# Altium schematic symbol library C2Sv0 - Processor.SchLib: 31 symbols
Pins are listed as number, name and electrical type; pins without a type are passive.

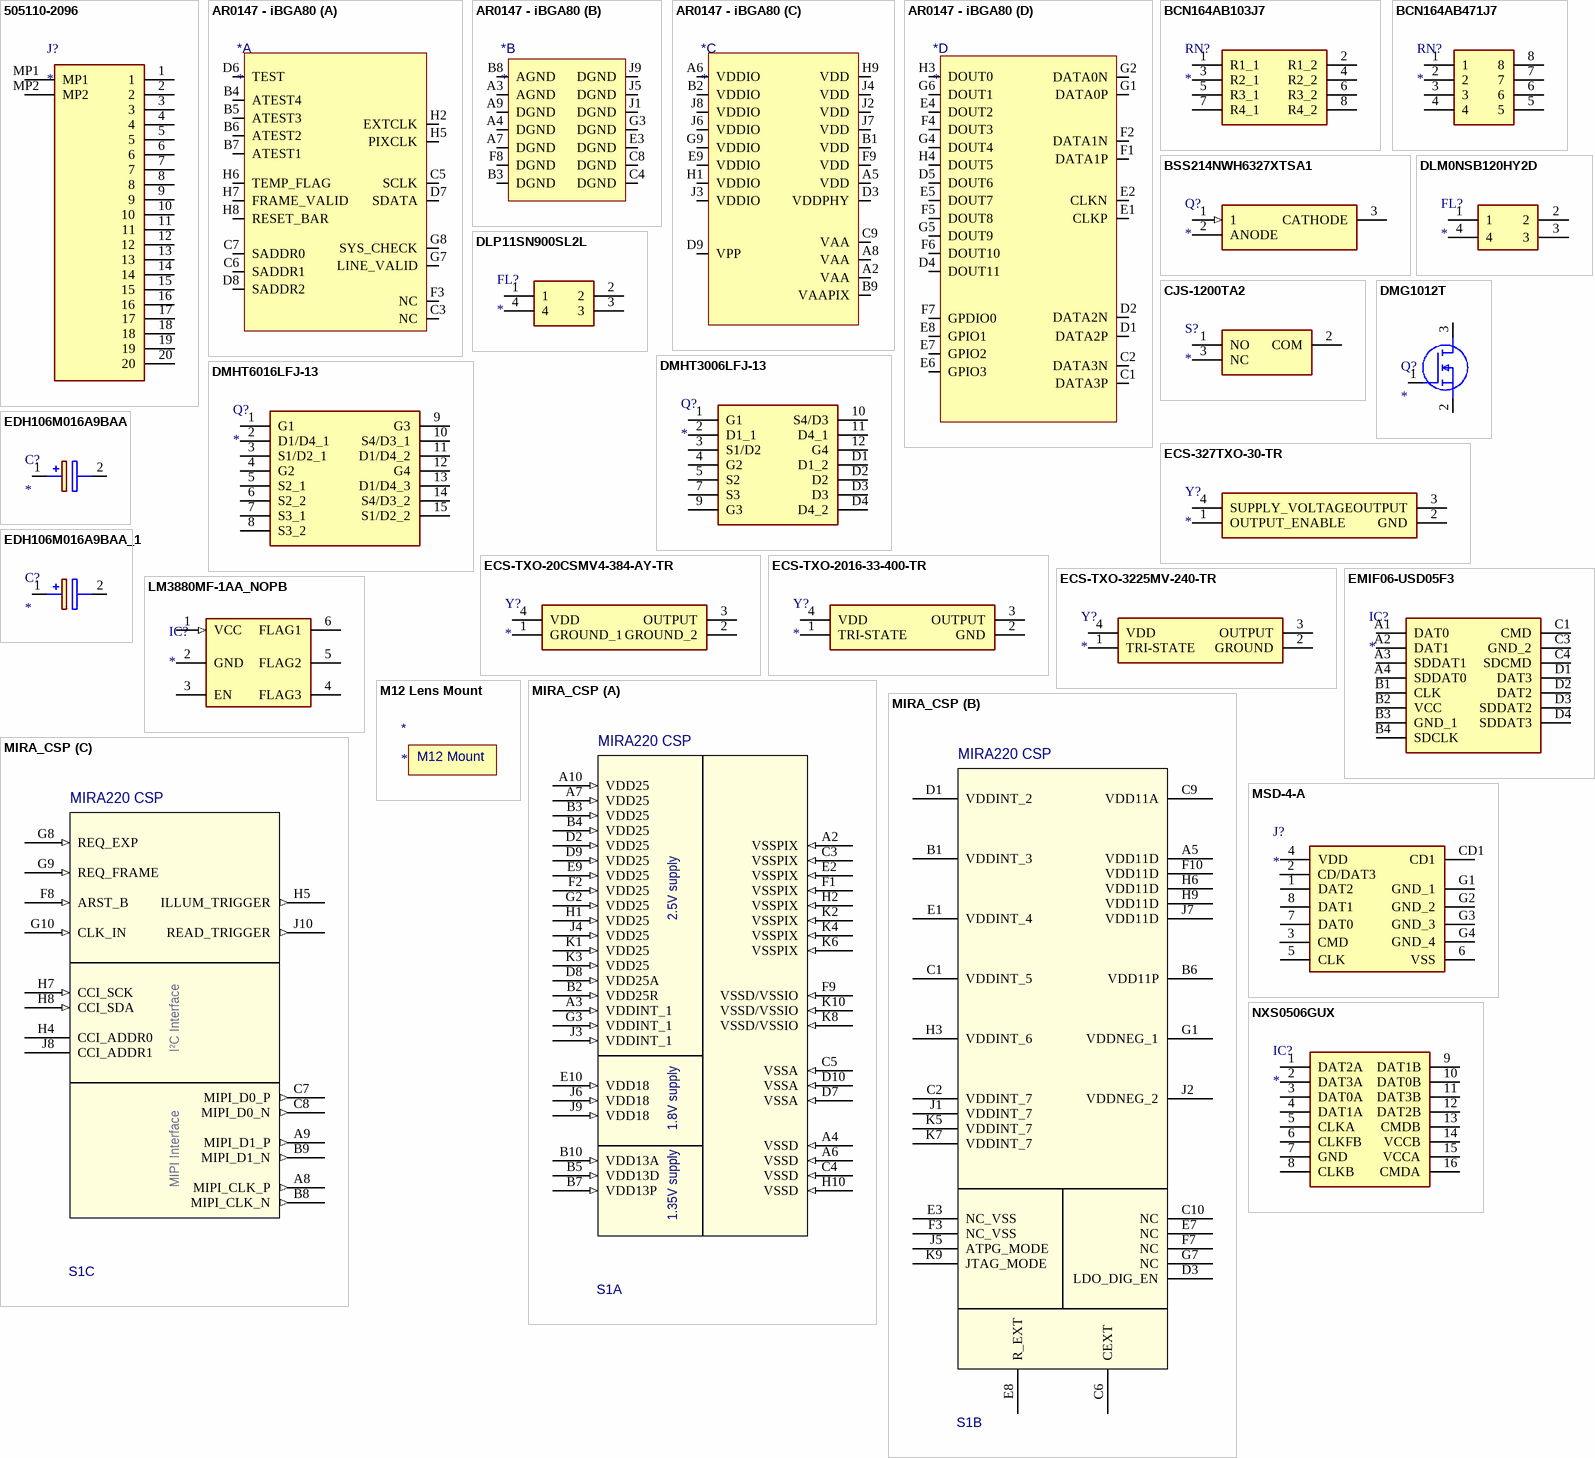
[diagram p0: symbols 505110-2096 to NXS0506GUX]

## 505110-2096
designator J?
Connector; Manufacturer_Name: Molex; Manufacturer_Part_Number: 505110-2096; Datasheet Link: https://componentsearchengine.com/Datasheets/1/505110-2096.pdf; Height: 2.1mm; Mouser Part Number: 538-505110-2096; Mouser Price/Stock: https://www.mouser.co.uk/ProductDetail/Molex/505110-2096?qs=IvjI65BR3TVK2gHWyfgM0A%3D%3D
footprint 5051102096
footprint 5051102096
pins: 1, 2, 3, 4, 5, 6, 7, 8, 9, 10, 11, 12, 13, 14, 15, 16, 17, 18, 19, 20, MP1, MP2

## AR0147 - iBGA80
designator *
footprint AR0147 - IBGA80
footprint AR0147 - IBGA80
part A pins: B4 ATEST4, B5 ATEST3, B6 ATEST2, B7 ATEST1, C3 NC, C5 SCLK (in), C6 SADDR1 (in), C7 SADDR0 (in), D6 TEST, D7 SDATA (in), D8 SADDR2 (in), F3 NC, G7 LINE_VALID (out), G8 SYS_CHECK (out), H2 EXTCLK (in), H5 PIXCLK (out), H6 TEMP_FLAG (out), H7 FRAME_VALID (out), H8 RESET_BAR (in)
part B pins: A3 AGND (power), A4 DGND (power), A7 DGND (power), A9 DGND (power), B3 DGND (power), B8 AGND (power), C4 DGND (power), C8 DGND (power), E3 DGND (power), F8 DGND (power), G3 DGND (power), J1 DGND (power), J5 DGND (power), J9 DGND (power)
part C pins: A2 VAA (power), A5 VDD (power), A6 VDDIO (power), A8 VAA (power), B1 VDD (power), B2 VDDIO (power), B9 VAAPIX (power), C9 VAA (power), D3 VDDPHY (power), D9 VPP (power), E9 VDDIO (power), F9 VDD (power), G9 VDDIO (power), H1 VDDIO (power), H9 VDD (power), J2 VDD (power), J3 VDDIO (power), J4 VDD (power), J6 VDDIO (power), J7 VDD (power), J8 VDDIO (power)
part D pins: C1 DATA3P (out), C2 DATA3N (out), D1 DATA2P (out), D2 DATA2N (out), D4 DOUT11 (out), D5 DOUT6 (out), E1 CLKP (out), E2 CLKN (out), E4 DOUT2 (out), E5 DOUT7 (out), E6 GPIO3 (io), E7 GPIO2 (io), E8 GPIO1 (io), F1 DATA1P (out), F2 DATA1N (out), F4 DOUT3 (out), F5 DOUT8 (out), F6 DOUT10 (out), F7 GPDIO0 (io), G1 DATA0P (out), G2 DATA0N (out), G4 DOUT4 (out), G5 DOUT9 (out), G6 DOUT1 (out), H3 DOUT0 (out), H4 DOUT5 (out)

## BCN164AB103J7
designator RN?
Resistor Network; Manufacturer_Name: IRC / TT Electronics; Manufacturer_Part_Number: BCN164AB103J7; Datasheet Link: https://componentsearchengine.com/Datasheets/1/BCN164AB103J7.pdf; Height: 0.6mm; Mouser Part Number: 858-BCN164AB103J7; Mouser Price/Stock: https://www.mouser.co.uk/ProductDetail/IRC-TT-Electronics/BCN164AB103J7?qs=sKpblPcrDFAYmBHclHBIlw%3D%3D; Arrow Part Number: BCN164AB103J7; Arrow Price/Stock: https://www.arrow.com/en/products/bcn164ab103j7/irc
footprint BCN164AB103J7
pins: 1 R1_1, 2 R1_2, 3 R2_1, 4 R2_2, 5 R3_1, 6 R3_2, 7 R4_1, 8 R4_2

## BCN164AB471J7
designator RN?
Resistor Network; Manufacturer_Name: TT Electronics; Manufacturer_Part_Number: BCN164AB471J7; Datasheet Link: https://www.mouser.com/datasheet/2/414/BCN-1154942.pdf; Height: 0.6mm; Mouser Part Number: 858-BCN164AB471J7
footprint BCN164AB471J7
pins: 1, 2, 3, 4, 5, 6, 7, 8

## BSS214NWH6327XTSA1
designator Q?
Transistor; Manufacturer_Name: Infineon; Manufacturer_Part_Number: BSS214NWH6327XTSA1; Datasheet Link: http://www.mouser.com/ds/2/196/BSS214NW_Rev2.2-359325.pdf; Height: 1mm; Mouser Part Number: 726-BSS214NWH6327XTS; Mouser Price/Stock: https://www.mouser.co.uk/ProductDetail/Infineon-Technologies/BSS214NWH6327XTSA1?qs=Dj8dEyEphkMe%252Bfnz0ZE2og%3D%3D; Arrow Part Number: BSS214NWH6327XTSA1; Arrow Price/Stock: https://www.arrow.com/en/products/bss214nwh6327xtsa1/infineon-technologies-ag?utm_currency=USD&region=nac
footprint BSS214NWH6327XTSA1
pins: 1 (in), 2 ANODE, 3 CATHODE

## CJS-1200TA2
designator S?
Switch; Manufacturer_Name: Nidec Copal; Manufacturer_Part_Number: CJS-1200TA2; Datasheet Link: http://www.nidec-copal-electronics.com/j/catalog/switch/cjs.pdf; Height: 2.5mm; Mouser Part Number: 229-CJS-1200TA2; Mouser Price/Stock: https://www.mouser.co.uk/ProductDetail/Nidec-Components/CJS-1200TA2?qs=XeJtXLiO41Rf26ws0igWdA%3D%3D
footprint CJS1200TA2
footprint CJS1200TA2
pins: 1 NO, 2 COM, 3 NC

## DLM0NSB120HY2D
designator FL?
Filter; Manufacturer_Name: Murata Electronics; Manufacturer_Part_Number: DLM0NSB120HY2D; Datasheet Link: https://www.murata.com/en-us/products/productdetail?partno=DLM0NSB120HY2%23; Height: 0.5mm; Mouser Part Number: 81-DLM0NSB120HY2D; Mouser Price/Stock: https://www.mouser.co.uk/ProductDetail/Murata-Electronics/DLM0NSB120HY2D?qs=d0WKAl%252BL4Kark8uQYdrkog%3D%3D
footprint DLM0NSB120HY2D
pins: 1, 2, 3, 4

## DLP11SN900SL2L
designator FL?
Filter; Manufacturer_Name: Murata Electronics; Manufacturer_Part_Number: DLP11SN900SL2L; Datasheet Link: https://eu.mouser.com/datasheet/2/281/EFLE0004-1666083.pdf; Height: 0.92mm; Mouser Part Number: 81-DLP11SN900SL2L; Mouser Price/Stock: https://www.mouser.co.uk/ProductDetail/Murata-Electronics/DLP11SN900SL2L?qs=mS8Fuotq4gEpeqbpu4ZywQ%3D%3D
footprint DLP11SN900SL2L
footprint DLP11SN900SL2L
pins: 1, 2, 3, 4

## DMG1012T
designator Q?
MOSFET (N-Channel); Manufacturer_Name: Diodes Incorporated; Manufacturer_Part_Number: DMG1012T; Datasheet Link: https://www.diodes.com/datasheet/download/DMG1012T.pdf; Height: 0.9mm; Mouser Part Number: N/A; Mouser Price/Stock: https://www.mouser.co.uk/ProductDetail/Diodes-Incorporated/DMG1012T?qs=Wj%2FVkw3K%252BMD5naxckZUW%2FA%3D%3D
footprint SOT50P160X90-3N
footprint SOT50P160X90-3N
pins: 1 G, 2 S, 3 D

## DMHT3006LFJ-13
designator Q?
MOSFET (N-Channel); Manufacturer_Name: Diodes Incorporated; Manufacturer_Part_Number: DMHT3006LFJ-13; Datasheet Link: https://www.mouser.com/datasheet/2/115/DMHT3006LFJ-1509024.pdf; Height: 0.82mm; Mouser Part Number: 621-DMHT3006LFJ-13; Mouser Price/Stock: https://www.mouser.co.uk/ProductDetail/Diodes-Incorporated/DMHT3006LFJ-13?qs=PqoDHHvF64%2FIw5fnwz%252BNTw%3D%3D; Arrow Part Number: DMHT3006LFJ-13; Arrow Price/Stock: https://www.arrow.com/en/products/dmht3006lfj-13/diodes-incorporated?utm_currency=USD&region=nac
footprint DMHT3006LFJ13
pins: 1 G1, 2 D1_1, 3 S1/D2, 4 G2, 5 S2, 7 S3, 9 G3, 10 S4/D3, 11 D4_1, 12 G4, D1 D1_2, D2, D3, D4 D4_2

## DMHT6016LFJ-13
designator Q?
MOSFET (N-Channel); Manufacturer_Name: Diodes Incorporated; Manufacturer_Part_Number: DMHT6016LFJ-13; Datasheet Link: https://www.diodes.com//assets/Datasheets/DMHT6016LFJ.pdf; Height: 0.85mm; Mouser Part Number: 621-DMHT6016LFJ-13; Mouser Price/Stock: https://www.mouser.co.uk/ProductDetail/Diodes-Incorporated/DMHT6016LFJ-13?qs=AQlKX63v8RuRA1AfUZIZiQ%3D%3D; Arrow Part Number: DMHT6016LFJ-13; Arrow Price/Stock: https://www.arrow.com/en/products/dmht6016lfj-13/diodes-incorporated?utm_currency=USD&region=nac
footprint DMHT6016LFJ13
pins: 1 G1, 2 D1/D4_1, 3 S1/D2_1, 4 G2, 5 S2_1, 6 S2_2, 7 S3_1, 8 S3_2, 9 G3, 10 S4/D3_1, 11 D1/D4_2, 12 G4, 13 D1/D4_3, 14 S4/D3_2, 15 S1/D2_2

## ECS-327TXO-30-TR
designator Y?
Crystal or Oscillator; Manufacturer_Name: ECS; Manufacturer_Part_Number: ECS-327TXO-30-TR; Datasheet Link: https://www.mouser.in/datasheet/2/122/ECS-327TXO-1856022.pdf; Height: 1.4mm; Mouser Part Number: 520-ECS-327TXO-30-TR; Mouser Price/Stock: https://www.mouser.co.uk/ProductDetail/ECS/ECS-327TXO-30-TR?qs=7MVldsJ5Uaw0lR9mGIycLQ%3D%3D; Arrow Part Number: ECS-327TXO-30-TR; Arrow Price/Stock: https://www.arrow.com/en/products/ecs-327txo-30-tr/ecs-international?region=nac
footprint ECS327TXO30TR
pins: 1 OUTPUT_ENABLE, 2 GND, 3 OUTPUT, 4 SUPPLY_VOLTAGE

## ECS-TXO-20CSMV4-384-AY-TR
designator Y?
Crystal or Oscillator; Manufacturer_Name: ECS; Manufacturer_Part_Number: ECS-TXO-20CSMV4-384-AY-TR; Datasheet Link: https://ecsxtal.com/store/pdf/ECS-TXO-20CSMV4.pdf; Height: 0.8mm
footprint ECS-TXO-20CSMV4-384-AY-TR
pins: 1 GROUND_1, 2 GROUND_2, 3 OUTPUT, 4 VDD

## ECS-TXO-2016-33-400-TR
designator Y?
Crystal or Oscillator; Manufacturer_Name: ECS; Manufacturer_Part_Number: ECS-TXO-2016-33-400-TR; Datasheet Link: https://datasheet.datasheetarchive.com/originals/distributors/Datasheets_SAMA/fdc451124f6f80954f29114af1256858.pdf; Height: 0.8mm; Mouser Part Number: 520-TXO-2016-33-400T; Mouser Price/Stock: https://www.mouser.co.uk/ProductDetail/ECS/ECS-TXO-2016-33-400-TR?qs=PzGy0jfpSMtctR53CPxRHg%3D%3D; Arrow Part Number: ECS-TXO-2016-33-400-TR; Arrow Price/Stock: https://www.arrow.com/en/products/ecs-txo-2016-33-400-tr/ecs-international?region=nac
footprint ECS-TXO-2016-33-400-TR
pins: 1 TRI-STATE, 2 GND, 3 OUTPUT, 4 VDD

## ECS-TXO-3225MV-240-TR
designator Y?
Crystal or Oscillator; Manufacturer_Name: ECS; Manufacturer_Part_Number: ECS-TXO-3225MV-240-TR; Datasheet Link: https://eu.mouser.com/datasheet/2/122/ECS-TXO-3225MV-1634330.pdf; Height: 1.2mm; Mouser Part Number: 520-TXO-3225MV-240-T; Mouser Price/Stock: https://www.mouser.co.uk/ProductDetail/ECS/ECS-TXO-3225MV-240-TR?qs=d0WKAl%252BL4KYXn7UuwSFJGQ%3D%3D; Arrow Part Number: ECS-TXO-3225MV-240-TR; Arrow Price/Stock: https://www.arrow.com/en/products/ecs-txo-3225mv-240-tr/ecs-international?region=nac
footprint ECSTXO3225MV240TR
pins: 1 TRI-STATE, 2 GROUND, 3 OUTPUT, 4 VDD

## EDH106M016A9BAA
designator C?
Capacitor Polarised; Manufacturer_Name: KEMET; Manufacturer_Part_Number: EDH106M016A9BAA; Datasheet Link: https://content.kemet.com/datasheets/KEM_A4049_EDH.pdf; Height: 5.65mm; Mouser Part Number: 80-EDH106M016A9BAA; Mouser Price/Stock: https://www.mouser.co.uk/ProductDetail/KEMET/EDH106M016A9BAA?qs=iR2ablhfrmGRSCLQdrL4eg%3D%3D; Arrow Part Number: EDH106M016A9BAA; Arrow Price/Stock: https://www.arrow.com/en/products/edh106m016a9baa/kemet-corporation?utm_currency=USD&region=nac
footprint CAPAE430X565N
footprint CAPAE430X565N
pins: 1 +, 2 -

## EDH106M016A9BAA_1
designator C?
Capacitor Polarised; Manufacturer_Name: KEMET; Manufacturer_Part_Number: EDH106M016A9BAA; Datasheet Link: https://content.kemet.com/datasheets/KEM_A4049_EDH.pdf; Height: 5.65mm; Mouser Part Number: 80-EDH106M016A9BAA; Mouser Price/Stock: https://www.mouser.co.uk/ProductDetail/KEMET/EDH106M016A9BAA?qs=iR2ablhfrmGRSCLQdrL4eg%3D%3D; Arrow Part Number: EDH106M016A9BAA; Arrow Price/Stock: https://www.arrow.com/en/products/edh106m016a9baa/kemet-corporation?utm_currency=USD&region=nac
footprint EDH106M016A9BAA
pins: 1 +, 2 -

## EMIF06-USD05F3
designator IC?
Integrated Circuit; Manufacturer_Name: STMicroelectronics; Manufacturer_Part_Number: EMIF06-USD05F3; Datasheet Link: https://eu.mouser.com/datasheet/2/389/sgst_s_a0011462292_1-2282541.pdf; Height: 0.55mm; Mouser Part Number: 511-EMIF06-USD05F3; Mouser Price/Stock: https://www.mouser.com/Search/Refine.aspx?Keyword=511-EMIF06-USD05F3; Arrow Part Number: EMIF06-USD05F3; Arrow Price/Stock: https://www.arrow.com/en/products/emif06-usd05f3/stmicroelectronics?region=nac
footprint BGA15C40P4X4_158X158X55
footprint BGA15C40P4X4_158X158X55
pins: A1 DAT0, A2 DAT1, A3 SDDAT1, A4 SDDAT0, B1 CLK, B2 VCC, B3 GND_1, B4 SDCLK, C1 CMD, C3 GND_2, C4 SDCMD, D1 DAT3, D2 DAT2, D3 SDDAT2, D4 SDDAT3

## LM3880MF-1AA_NOPB
designator IC?
Integrated Circuit; Manufacturer_Name: Texas Instruments; Manufacturer_Part_Number: LM3880MF-1AA/NOPB; Datasheet Link: http://www.ti.com/lit/gpn/lm3880; Height: 1.45mm; Mouser Part Number: 926-LM3880MF-1AANOPB; Mouser Price/Stock: https://www.mouser.co.uk/ProductDetail/Texas-Instruments/LM3880MF-1AA-NOPB?qs=QbsRYf82W3Fi03r6kJUy6g%3D%3D; Arrow Part Number: LM3880MF-1AA/NOPB; Arrow Price/Stock: https://www.arrow.com/en/products/lm3880mf-1aanopb/texas-instruments?region=nac
footprint LM3880MF-1AA_NOPB
pins: 1 VCC (in), 2 GND, 3 EN, 4 FLAG3, 5 FLAG2, 6 FLAG1

## M12 Lens Mount
designator *
footprint M12 Lens Mount
text: M12 Mount

## MIRA_CSP
designator S1, comment MIRA CSP  (value not drawn)
Mira220-2QM1WA; Part Number: Mira220-2QM1WA
footprint MIRA220CSP
footprint MIRA220 (MIRA220 BGA, 87-Leads, Body 5.45x5.44mmx0.80mm, Pitch 0.50mm)
footprint MIRA220 (MIRA220 BGA, 87-Leads, Body 5.45x5.44mmx0.80mm, Pitch 0.50mm)
footprint MIRA220 (MIRA220 BGA, 87-Leads, Body 5.45x5.44mmx0.80mm, Pitch 0.50mm)
part A pins: A2 VSSPIX (in), A3 VDDINT_1 (in), A4 VSSD (in), A6 VSSD (in), A7 VDD25 (in), A10 VDD25 (in), B2 VDD25R (in), B3 VDD25 (in), B4 VDD25 (in), B5 VDD13D (in), B7 VDD13P (in), B10 VDD13A (in), C3 VSSPIX (in), C4 VSSD (in), C5 VSSA (in), D2 VDD25 (in), D7 VSSA (in), D8 VDD25A (in), D9 VDD25 (in), D10 VSSA (in), E2 VSSPIX (in), E9 VDD25 (in), E10 VDD18 (in), F1 VSSPIX (in), F2 VDD25 (in), F9 VSSD/VSSIO (in), G2 VDD25 (in), G3 VDDINT_1 (in), H1 VDD25 (in), H2 VSSPIX (in), H10 VSSD (in), J3 VDDINT_1 (in), J4 VDD25 (in), J6 VDD18 (in), J9 VDD18 (in), K1 VDD25 (in), K2 VSSPIX (in), K3 VDD25 (in), K4 VSSPIX (in), K6 VSSPIX (in), K8 VSSD/VSSIO (in), K10 VSSD/VSSIO (in)
part B pins: A5 VDD11D, B1 VDDINT_3, B6 VDD11P, C1 VDDINT_5, C2 VDDINT_7, C6 CEXT, C9 VDD11A, C10 NC, D1 VDDINT_2, D3 LDO_DIG_EN, E1 VDDINT_4, E3 NC_VSS, E7 NC, E8 R_EXT, F3 NC_VSS, F7 NC, F10 VDD11D, G1 VDDNEG_1, G7 NC, H3 VDDINT_6, H6 VDD11D, H9 VDD11D, J1 VDDINT_7, J2 VDDNEG_2, J5 ATPG_MODE, J7 VDD11D, K5 VDDINT_7, K7 VDDINT_7, K9 JTAG_MODE
part C pins: A8 MIPI_CLK_P (out), A9 MIPI_D1_P (out), B8 MIPI_CLK_N (out), B9 MIPI_D1_N (out), C7 MIPI_D0_P (out), C8 MIPI_D0_N (out), F8 ARST_B (in), G8 REQ_EXP (in), G9 REQ_FRAME (in), G10 CLK_IN (in), H4 CCI_ADDR0, H5 ILLUM_TRIGGER (out), H7 CCI_SCK (in), H8 CCI_SDA (in), J8 CCI_ADDR1, J10 READ_TRIGGER (out)
part A text: MIRA220 CSP; 2.5V supply; 1.8V supply; 1.35V supply
part B text: MIRA220 CSP
part C text: MIRA220 CSP; I²C Interface; MIPI Interface

## MSD-4-A
designator J?
Connector; Manufacturer_Name: Same Sky; Manufacturer_Part_Number: MSD-4-A; Datasheet Link: https://www.sameskydevices.com/product/resource/msd-4-a.pdf; Height: 2mm; Mouser Part Number: 179-MSD-4-A; Mouser Price/Stock: https://www.mouser.co.uk/ProductDetail/Same-Sky/MSD-4-A?qs=Z%252BL2brAPG1Jll%252BQTi%252Btupg%3D%3D; Arrow Part Number: MSD-4-A; Arrow Price/Stock: https://www.arrow.com/en/products/msd-4-a/cui-devices?utm_currency=USD&region=nac
footprint MSD4A
footprint MSD4A
pins: 1 DAT2, 2 CD/DAT3, 3 CMD, 4 VDD, 5 CLK, 6 VSS, 7 DAT0, 8 DAT1, CD1, G1 GND_1, G2 GND_2, G3 GND_3, G4 GND_4

## NXS0506GUX
designator IC?
Integrated Circuit; Manufacturer_Name: Nexperia; Manufacturer_Part_Number: NXS0506GUX; Datasheet Link: https://assets.nexperia.com/documents/data-sheet/NXS0506.pdf; Height: 0.5mm
footprint NXS0506GUX
pins: 1 DAT2A, 2 DAT3A, 3 DAT0A, 4 DAT1A, 5 CLKA, 6 CLKFB, 7 GND, 8 CLKB, 9 DAT1B, 10 DAT0B, 11 DAT3B, 12 DAT2B, 13 CMDB, 14 VCCB, 15 VCCA, 16 CMDA

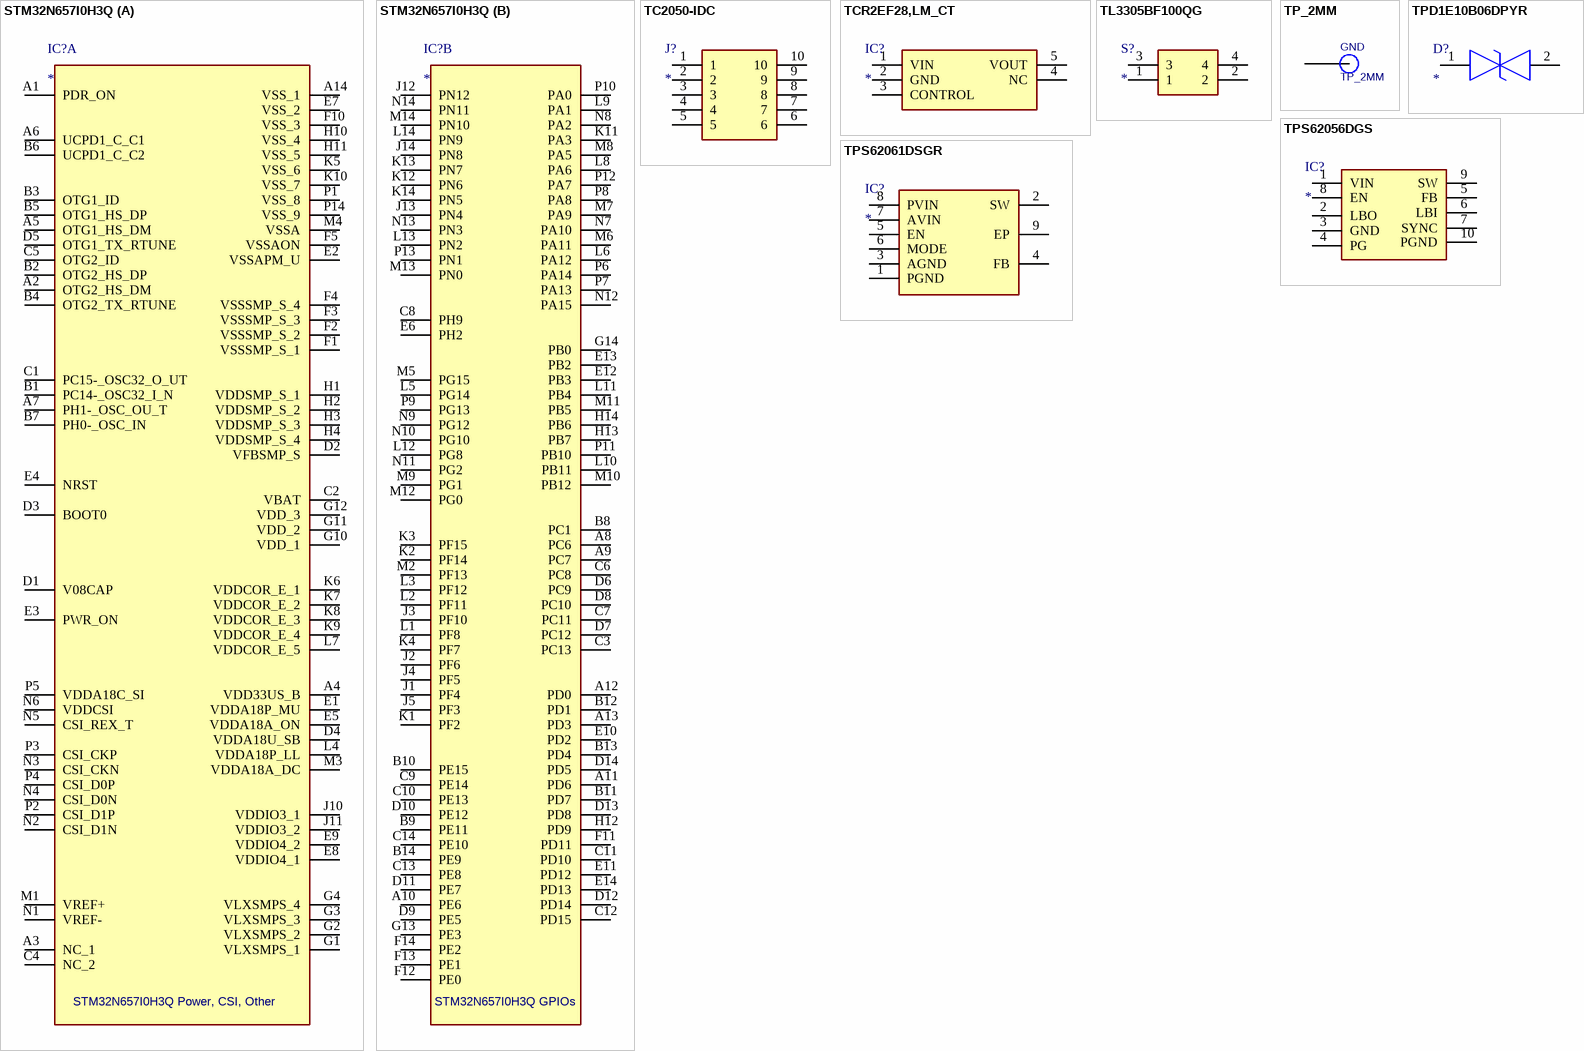
[diagram p1: symbols STM32N657I0H3Q to TPS62061DSGR]

## STM32N657I0H3Q
designator IC?
Integrated Circuit; Manufacturer_Name: STMicroelectronics; Manufacturer_Part_Number: STM32N657I0H3Q; Datasheet Link: https://www.st.com/resource/en/datasheet/stm32n657a0.pdf; Height: 1mm; Mouser Part Number: 511-STM32N657I0H3Q; Mouser Price/Stock: https://www.mouser.co.uk/ProductDetail/STMicroelectronics/STM32N657I0H3Q?qs=a2MtRaTmNOQAexZMsq8u8A%3D%3D; Arrow Part Number: STM32N657I0H3Q; Arrow Price/Stock: https://www.arrow.com/en/products/stm32n657i0h3q/stmicroelectronics?utm_currency=USD&region=nac
footprint BGA178C80P14X14_1200X1200X100
footprint BGA178C80P14X14_1200X1200X100
part A pins: A1 PDR_ON, A2 OTG2_HS_DM, A3 NC_1, A4 VDD33US_B, A5 OTG1_HS_DM, A6 UCPD1_C_C1, A7 PH1-_OSC_OU_T, A14 VSS_1, B1 PC14-_OSC32_I_N, B2 OTG2_HS_DP, B3 OTG1_ID, B4 OTG2_TX_RTUNE, B5 OTG1_HS_DP, B6 UCPD1_C_C2, B7 PH0-_OSC_IN, C1 PC15-_OSC32_O_UT, C2 VBAT, C4 NC_2, C5 OTG2_ID, D1 V08CAP, D2 VFBSMP_S, D3 BOOT0, D4 VDDA18U_SB, D5 OTG1_TX_RTUNE, E1 VDDA18P_MU, E2 VSSAPM_U, E3 PWR_ON, E4 NRST, E5 VDDA18A_ON, E7 VSS_2, E8 VDDIO4_1, E9 VDDIO4_2, F1 VSSSMP_S_1, F2 VSSSMP_S_2, F3 VSSSMP_S_3, F4 VSSSMP_S_4, F5 VSSAON, F10 VSS_3, G1 VLXSMPS_1, G2 VLXSMPS_2, G3 VLXSMPS_3, G4 VLXSMPS_4, G10 VDD_1, G11 VDD_2, G12 VDD_3, H1 VDDSMP_S_1, H2 VDDSMP_S_2, H3 VDDSMP_S_3, H4 VDDSMP_S_4, H10 VSS_4, H11 VSS_5, J10 VDDIO3_1, J11 VDDIO3_2, K5 VSS_6, K6 VDDCOR_E_1, K7 VDDCOR_E_2, K8 VDDCOR_E_3, K9 VDDCOR_E_4, K10 VSS_7, L4 VDDA18P_LL, L7 VDDCOR_E_5, M1 VREF+, M3 VDDA18A_DC, M4 VSSA, N1 VREF-, N2 CSI_D1N, N3 CSI_CKN, N4 CSI_D0N, N5 CSI_REX_T, N6 VDDCSI, P1 VSS_8, P2 CSI_D1P, P3 CSI_CKP, P4 CSI_D0P, P5 VDDA18C_SI, P14 VSS_9
part B pins: A8 PC6, A9 PC7, A10 PE6, A11 PD6, A12 PD0, A13 PD3, B8 PC1, B9 PE11, B10 PE15, B11 PD7, B12 PD1, B13 PD4, B14 PE9, C3 PC13, C6 PC8, C7 PC11, C8 PH9, C9 PE14, C10 PE13, C11 PD10, C12 PD15, C13 PE8, C14 PE10, D6 PC9, D7 PC12, D8 PC10, D9 PE5, D10 PE12, D11 PE7, D12 PD14, D13 PD8, D14 PD5, E6 PH2, E10 PD2, E11 PD12, E12 PB3, E13 PB2, E14 PD13, F11 PD11, F12 PE0, F13 PE1, F14 PE2, G13 PE3, G14 PB0, H12 PD9, H13 PB7, H14 PB6, J1 PF4, J2 PF6, J3 PF10, J4 PF5, J5 PF3, J12 PN12, J13 PN4, J14 PN8, K1 PF2, K2 PF14, K3 PF15, K4 PF7, K11 PA3, K12 PN6, K13 PN7, K14 PN5, L1 PF8, L2 PF11, L3 PF12, L5 PG14, L6 PA12, L8 PA6, L9 PA1, L10 PB11, L11 PB4, L12 PG8, L13 PN2, L14 PN9, M2 PF13, M5 PG15, M6 PA11, M7 PA9, M8 PA5, M9 PG1, M10 PB12, M11 PB5, M12 PG0, M13 PN0, M14 PN10, N7 PA10, N8 PA2, N9 PG12, N10 PG10, N11 PG2, N12 PA15, N13 PN3, N14 PN11, P6 PA14, P7 PA13, P8 PA8, P9 PG13, P10 PA0, P11 PB10, P12 PA7, P13 PN1
part A text: STM32N657I0H3Q Power, CSI, Other
part B text: STM32N657I0H3Q GPIOs

## TC2050-IDC
designator J?
Connector; Manufacturer_Name: Tag Connect; Manufacturer_Part_Number: TC2050-IDC; Datasheet Link: https://datasheet.datasheetarchive.com/originals/distributors/Datasheets_SAMA/51f607a36a24a0aceedaa5d6ebc30014.pdf
footprint TC2050-IDC
footprint TC2050-IDC
pins: 1, 2, 3, 4, 5, 6, 7, 8, 9, 10

## TCR2EF28,LM_CT
designator IC?
Integrated Circuit; Manufacturer_Name: Toshiba; Manufacturer_Part_Number: TCR2EF28,LM(CT; Datasheet Link: https://toshiba.semicon-storage.com/info/docget.jsp?did=13794&prodName=TCR2EF28; Height: 1.4mm; Mouser Part Number: 757-TCR2EF28LMCT; Mouser Price/Stock: https://www.mouser.co.uk/ProductDetail/Toshiba/TCR2EF28LMCT?qs=cW4DzVrAanOy43sfBSrpyQ%3D%3D; Arrow Part Number: TCR2EF28,LM(CT; Arrow Price/Stock: https://www.arrow.com/en/products/tcr2ef28lm-ct/toshiba?utm_currency=USD&region=nac
footprint TCR2EF28,LM_CT
pins: 1 VIN, 2 GND, 3 CONTROL, 4 NC, 5 VOUT

## TL3305BF100QG
designator S?
Switch; Manufacturer_Name: E-Switch; Manufacturer_Part_Number: TL3305BF100QG; Datasheet Link: https://configured-product-images.s3.amazonaws.com/2D/specs/TL3305BF100QG.pdf; Mouser Part Number: 612-TL3305BF100QG; Mouser Price/Stock: https://www.mouser.co.uk/ProductDetail/E-Switch/TL3305BF100QG?qs=IKkN%2F947nfDIPwqPQja%252BvQ%3D%3D
footprint TL3305BF100QG
pins: 1, 2, 3, 4

## TP_2MM
designator GND
footprint TESTPOINT 2MM
footprint TESTPOINT 2MM
pins: TP TP_2MM

## TPD1E10B06DPYR
designator D?
TVS Diode (Bi-directional); Manufacturer_Name: Texas Instruments; Manufacturer_Part_Number: TPD1E10B06DPYR; Datasheet Link: https://www.ti.com/lit/ds/symlink/tpd1e10b06.pdf?HQS=TI-null-null-mousermode-df-pf-null-wwe&ts=1599077798252&ref_url=https%253A%252F%252Fwww.mouser.com%252F; Height: 0.45mm; Mouser Part Number: 595-TPD1E10B06DPYR; Mouser Price/Stock: https://www.mouser.co.uk/ProductDetail/Texas-Instruments/TPD1E10B06DPYR?qs=UFc95S4Z4CaJYpQ4xqTc0g%3D%3D; Arrow Part Number: TPD1E10B06DPYR; Arrow Price/Stock: https://www.arrow.com/en/products/tpd1e10b06dpyr/texas-instruments?region=nac
footprint TPD1E10B06DPYR
footprint TPD1E10B06DPYR
footprint TPD1E10B06DPYR
pins: 1, 2

## TPS62056DGS
designator IC?
Integrated Circuit; Manufacturer_Name: Texas Instruments; Manufacturer_Part_Number: TPS62056DGS; Datasheet Link: http://componentsearchengine.com/Datasheets/1/TPS62056DGS.pdf; Height: 1.1mm; Mouser Part Number: 595-TPS62056DGS; Mouser Price/Stock: https://www.mouser.co.uk/ProductDetail/Texas-Instruments/TPS62056DGS?qs=Gse6rAGbi7%252BfbVYUmz7rjA%3D%3D; Arrow Part Number: TPS62056DGS; Arrow Price/Stock: https://www.arrow.com/en/products/tps62056dgs/texas-instruments?region=nac
footprint TPS62056DGS
pins: 1 VIN, 2 LBO, 3 GND, 4 PG, 5 FB, 6 LBI, 7 SYNC, 8 EN, 9 SW, 10 PGND

## TPS62061DSGR
designator IC?
Integrated Circuit; Manufacturer_Name: Texas Instruments; Manufacturer_Part_Number: TPS62061DSGR; Datasheet Link: http://www.ti.com/lit/gpn/TPS62061; Height: 0.8mm; Mouser Part Number: 595-TPS62061DSGR; Mouser Price/Stock: https://www.mouser.com/Search/Refine.aspx?Keyword=595-TPS62061DSGR; Arrow Part Number: TPS62061DSGR; Arrow Price/Stock: https://www.arrow.com/en/products/tps62061dsgr/texas-instruments
footprint TPS62061DSGR
pins: 1 PGND, 2 SW, 3 AGND, 4 FB, 5 EN, 6 MODE, 7 AVIN, 8 PVIN, 9 EP